# Altium integrated library Crystal16 MHz Ceramic Resonator.IntLib: 1 symbol
Pins are listed as number, name and electrical type; pins without a type are passive.

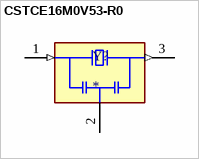
[diagram p0: symbol CSTCE16M0V53-R0]

## CSTCE16M0V53-R0
designator Y?
16 MHz Ceramic Resonator Built in Capacitor 15 pF Â±0.3% -20Â°C ~ 80Â°C Surface Mount; MF: Murata; MP: CSTCE16M0V53-R0-; SnapEDA_Link: https://www.snapeda.com/parts/CSTCE16M0V53-R0-/Murata/view-part/?ref=snap; Package: None; Value: *; Check_prices: https://www.snapeda.com/parts/CSTCE16M0V53-R0-/Murata/view-part/?ref=eda
footprint OSC_CSTCE16M0V53-R0
pins: 1 IN (in), 2 GND (power), 3 OUT (out)